# Altium schematic symbol library ZenerDiod1W3_6V.SchLib: 1 symbol
Pins are listed as number, name and electrical type; pins without a type are passive.

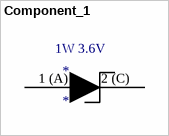
[diagram p0: symbol Component_1]

## Component_1
designator *
pins: 1 (A) (power), 2 (C) (power)
text: 1W 3.6V